# EAGLE library part 2PDT_SWITCH (library eDNA)
Double Pole Double Throw ON OFF ON switch. https://www.digikey.com/product-detail/en/e-switch/100DP1T1B1M2QEH/EG2400-ND/378869
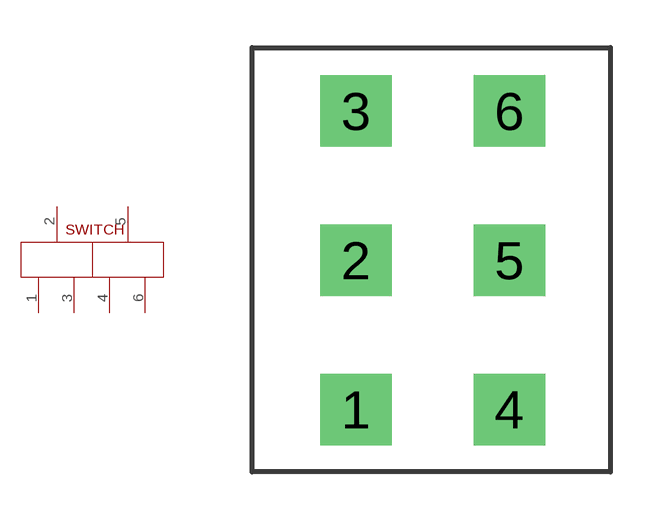
[diagram p12: symbol with the pads of 2PDT_SWITCH_SMD; footprint 2PDT_SWITCH_SMD]

Designator prefix -

## 2PDT_SWITCH  [2PDT_SWITCH_SMD]
1  1
2  2
3  3
4  4
5  5
6  6

## Footprint 2PDT_SWITCH_SMD (pad centres in mm)
drill 1.5 square: 1 0,-9.4; 2 0,-4.7; 3 0,0; 4 4.83,-9.4; 5 4.83,-4.7; 6 4.83,0